# Altium schematic symbol library Crystal.SchLib: 2 symbols
Pins are listed as number, name and electrical type; pins without a type are passive.

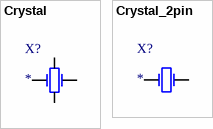
[diagram p0: symbols Crystal to Crystal_2pin]

## Crystal
designator X?
PDF: *; BUY_LINK: *; PRICE: *; ID: *
footprint ABM11
footprint ABM8
pins: 1 OSC1, 2 GND, 3 OSC2, 4 GND

## Crystal_2pin
designator X?
PDF: *; BUY_LINK: *; PRICE: *; ID: *
footprint HC49_SMD
footprint HC49S
footprint NX8045GB
pins: 1 OSC1, 3 OSC2